# EAGLE library part PEC11R-4215F-S0024 (library PEC11R-4215F-S0024)
Check availability <https://pricing.snapeda.com/parts/PEC11R-4215F-S0024/Bourns/view-part?ref=eda>
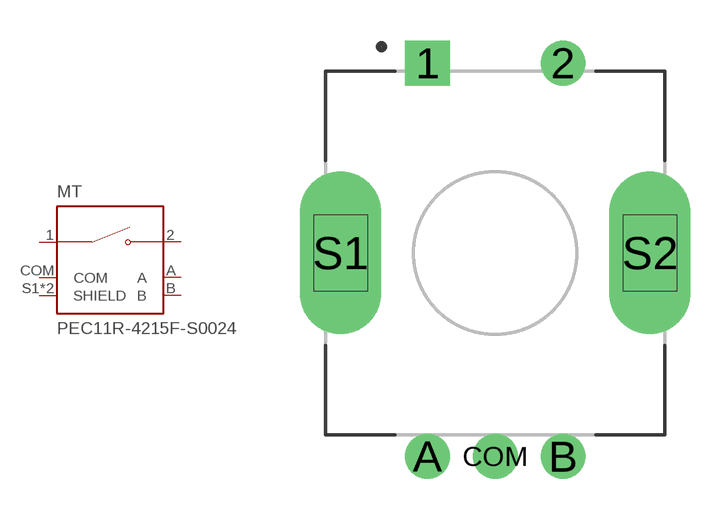
[diagram p0: symbol with the pads of XDCR_PEC11R-4215F-S0024; footprint XDCR_PEC11R-4215F-S0024]

Designator prefix MT

## PEC11R-4215F-S0024 (AVAILABILITY: In Stock; CHECK_PRICES: https://www.snapeda.com/parts/PEC11R-4215F-S0024/Bourns/view-part/?ref=eda; DESCRIPTION: Encoder,Rotary,24 Detents,15 mm, Shaft,Switch | Bourns PEC11R-4215F-S0024; MF: Bourns; MP: PEC11R-4215F-S0024; PACKAGE: None; PRICE: None; SNAPEDA_LINK: https://www.snapeda.com/parts/PEC11R-4215F-S0024/Bourns/view-part/?ref=snap)  [XDCR_PEC11R-4215F-S0024]
1  1  pas
2  2  pas
A  A  pas
B  B  pas
COM  COM  pas
S1  SHIELD  pas
S2  SHIELD  pas

## Footprint XDCR_PEC11R-4215F-S0024 (pad centres in mm)
drill 1.1 square: 1 -2.5,7
drill 1.1: 2 2.5,7; A -2.5,-7.5; B 2.5,-7.5; COM 0,-7.5
drill 2 long: S1 -5.7,0; S2 5.7,0